# Altium footprint library RS12L.PcbLib: 1 footprints
Each footprint in its own frame and in the unit in brackets; x right, y up, seen from the top. Pads: shape width x height; smd on the part's side, far side on the other; paste and mask are expansions set on the pad; w line width, h text height; cw(c..) or ccw(c..) is an arc to the next point about the centre after c.
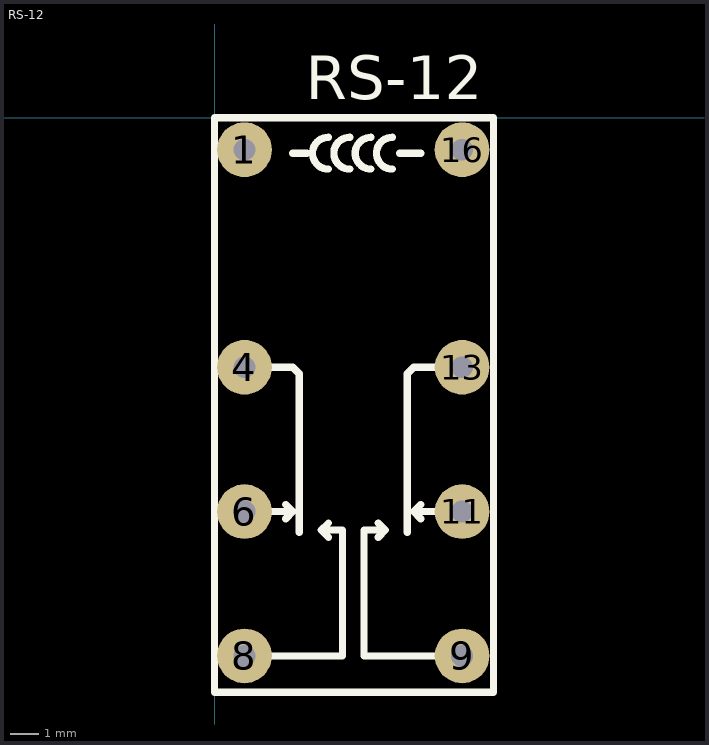
[diagram p0: the footprint, top view; thin cyan lines are the x and y axes]

## RS-12 [mm]
pads (8):
  round 1.924 hole 0.762: 1(1.05,-1.125) 4(1.05,-8.775) 6(1.05,-13.85) 8(1.05,-18.925) 9(8.7,-18.925) 11(8.7,-13.85) 13(8.7,-8.775) 16(8.7,-1.125)
Top Overlay:
  lines w0.254: 1.05,-18.925 4.5,-18.925 4.5,-14.5 3.75,-14.5 ; 1.05,-13.85 2.75,-13.85 ; 1.05,-8.775 2.75,-8.775 2.975,-9 2.975,-14.575 ; 2.5,-14.1 2.75,-13.85 ; 2.5,-13.6 2.75,-13.85 ; 2.75,-1.25 3.25,-1.25 ; 4,-14.75 3.75,-14.5 ; 4,-14.25 3.75,-14.5 ; 4,-1.809 cw(c4,-1.25) 4,-0.691 ; 4.75,-1.809 cw(c4.75,-1.25) 4.75,-0.691 ; 5.5,-1.809 cw(c5.5,-1.25) 5.5,-0.691 ; 5.75,-14.75 6,-14.5 ; 5.75,-14.25 6,-14.5 ; 6.25,-1.809 cw(c6.25,-1.25) 6.25,-0.691 ; 6.5,-1.25 7.25,-1.25 ; 6.775,-14.575 6.775,-9 7,-8.775 8.7,-8.775 ; 7.25,-14.1 7,-13.85 ; 7.25,-13.6 7,-13.85 ; 8.7,-18.925 5.25,-18.925 5.25,-14.5 6,-14.5 ; 8.7,-13.85 7,-13.85 ; 0,-20.2 9.8,-20.2 9.8,0 0,0 0,-20.2
  text "RS-12" at 3.2,0.65 h1.52
3D body: height 0.25, standoff 0, extent 3.048,-2.794 3.048,-2.794